# Altium schematic symbol library MB1S.Schlib: 1 symbol
Pins are listed as number, name and electrical type; pins without a type are passive.

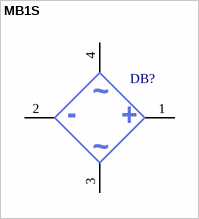
[diagram p0: symbol MB1S]

## MB1S
designator DB?, comment DB  (value not drawn)
pins: 1 +, 2 -, 3 Sin, 4 Sin
text: ~